# Altium schematic symbol library Digital_Pins.SchLib: 1 symbol
Pins are listed as number, name and electrical type; pins without a type are passive.

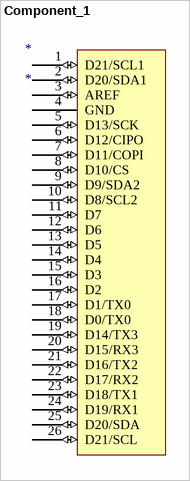
[diagram p0: symbol Component_1]

## Component_1
designator *
pins: 1 D21/SCL1 (io), 2 D20/SDA1 (io), 3 AREF (io), 4 GND (power), 5 D13/SCK (io), 6 D12/CIPO (io), 7 D11/COPI (io), 8 D10/CS (io), 9 D9/SDA2 (io), 10 D8/SCL2 (io), 11 D7 (io), 12 D6 (io), 13 D5 (io), 14 D4 (io), 15 D3 (io), 16 D2 (io), 17 D1/TX0 (io), 18 D0/TX0 (io), 19 D14/TX3 (io), 20 D15/RX3 (io), 21 D16/TX2 (io), 22 D17/RX2 (io), 23 D18/TX1 (io), 24 D19/RX1 (io), 25 D20/SDA (io), 26 D21/SCL (io)